# Altium schematic symbol library LED.SchLib: 11 symbols
Pins are listed as number, name and electrical type; pins without a type are passive.

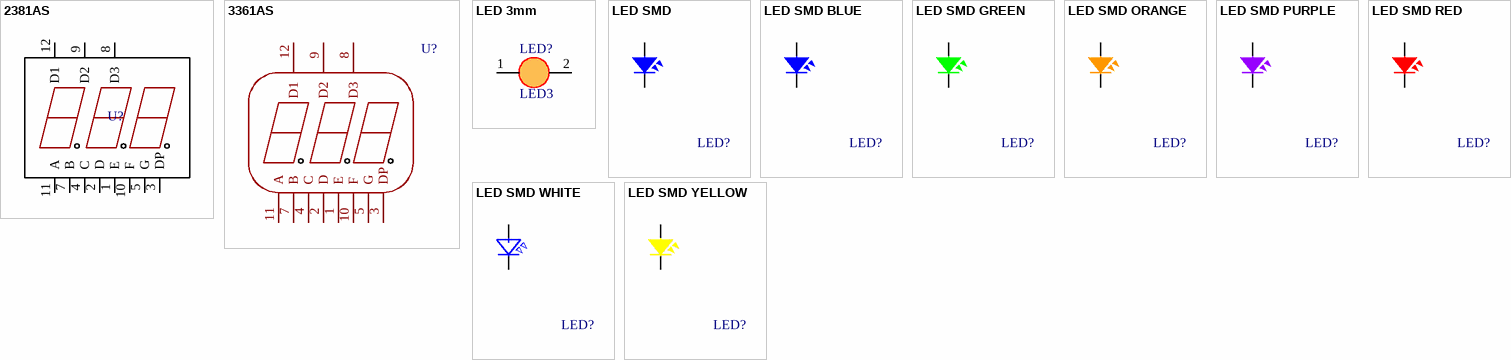
[diagram p0: symbols 2381AS to LED SMD YELLOW]

## 2381AS
designator U?
pins: 1 E, 2 D, 3 DP, 4 C, 5 G, 7 B, 8 D3, 9 D2, 10 F, 11 A, 12 D1

## 3361AS
designator U?
pins: 1 E, 2 D, 3 DP, 4 C, 5 G, 7 B, 8 D3, 9 D2, 10 F, 11 A, 12 D1

## LED 3mm
designator LED?, comment LED3
footprint LED3mm
pins: 1 A, 2 K

## LED SMD
designator LED?
pins: 1, 2

## LED SMD BLUE
designator LED?
pins: 1, 2

## LED SMD GREEN
designator LED?
pins: 1, 2

## LED SMD ORANGE
designator LED?
pins: 1, 2

## LED SMD PURPLE
designator LED?
pins: 1, 2

## LED SMD RED
designator LED?
pins: 1, 2

## LED SMD WHITE
designator LED?
pins: 1, 2

## LED SMD YELLOW
designator LED?
pins: 1, 2